# Altium footprint library Resistor Footprints.PcbLib: 5 footprints
Each footprint in its own frame and in the unit in brackets; x right, y up, seen from the top. Pads: shape width x height; smd on the part's side, far side on the other; paste and mask are expansions set on the pad; w line width, h text height; cw(c..) or ccw(c..) is an arc to the next point about the centre after c.
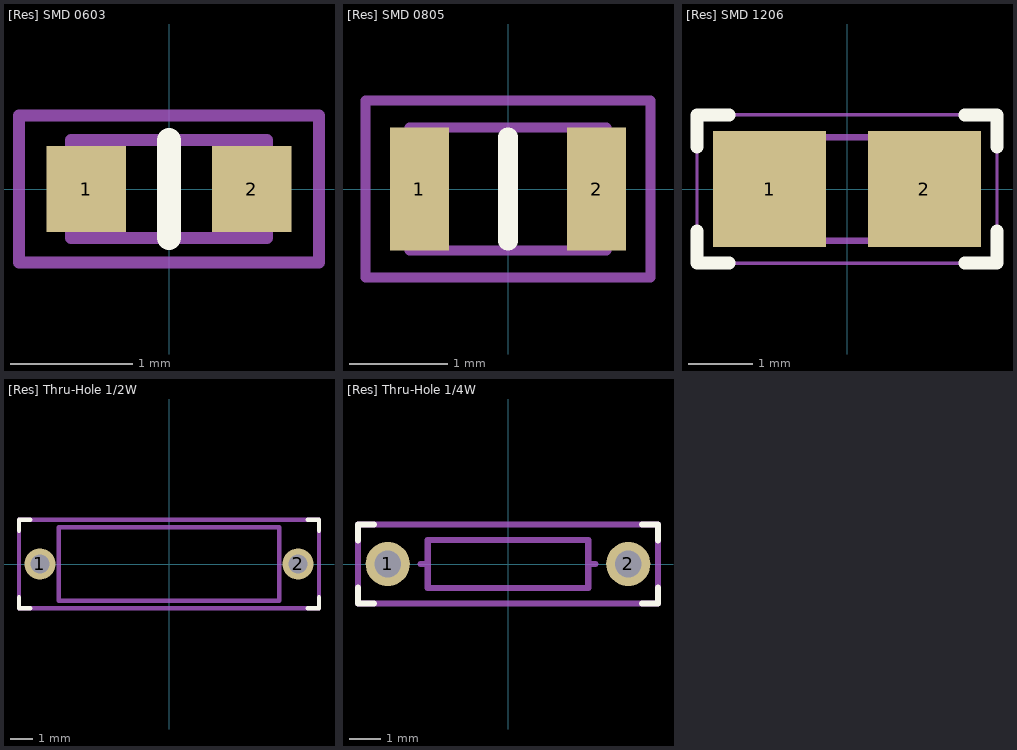
[diagram p0: the footprints below, top view; thin cyan lines are the x and y axes]

## [Res] SMD 0603 [mm]
pads (2):
  rect 0.65x0.7 smd: 1(-0.675,0) 2(0.675,0)
Top Overlay:
  lines w0.2: 0,-0.4 0,0.4
Physical Outline:
  lines w0.1: -0.8,-0.4 0.8,-0.4 0.8,0.4 -0.8,0.4 -0.8,-0.4
Part Border:
  lines w0.1: -1.225,-0.6 1.225,-0.6 1.225,0.6 -1.225,0.6 -1.225,-0.6
3D body "GRM188C80J226ME01D.stp": height 0.8, standoff 0, extent -0.8,-0.45 0.8,0.45

## [Res] SMD 0805 [mm]
pads (2):
  rect 0.6x1.25 smd: 1(-0.9,0) 2(0.9,0)
Top Overlay:
  lines w0.2: 0,-0.525 0,0.525
Physical Outline:
  lines w0.1: -1,-0.625 -1,0.625 1,0.625 1,-0.625 -1,-0.625
Part Border:
  lines w0.1: -1.45,-0.9 1.45,-0.9 1.45,0.9 -1.45,0.9 -1.45,-0.9
3D body "SMD Resistor [0805].STEP": height 0.5, standoff 0, extent -1,-0.625 1,0.625

## [Res] SMD 1206 [mm]
pads (2):
  rect 1.75x1.8 smd: 1(-1.2,0) 2(1.2,0)
Top Overlay:
  lines w0.2: -2.325,-0.65 -2.325,-1.15 -1.825,-1.15 ; -2.325,0.65 -2.325,1.15 -1.825,1.15 ; 1.825,-1.15 2.325,-1.15 2.325,-0.65 ; 1.825,1.15 2.325,1.15 2.325,0.65
Physical Outline:
  lines w0.1: -1.6,-0.8 -1.6,0.8 1.6,0.8 1.6,-0.8 -1.6,-0.8
Part Border:
  lines w0.05: -2.325,-1.15 -2.325,1.15 2.325,1.15 2.325,-1.15 -2.325,-1.15
3D body "HRG3216P-1000-D-T1.stp": height 0.55, standoff 0, extent -1.6,-0.8 1.6,0.8

## [Res] Thru-Hole 1/2W [mm]
pads (2):
  round 1.4 hole 0.85: 1(-5.81,0) 2(5.81,0)
Top Overlay:
  lines w0.2: -6.75,-1.5 -6.75,-2 -6.25,-2 ; -6.75,1.5 -6.75,2 -6.25,2 ; 6.25,-2 6.75,-2 6.75,-1.5 ; 6.25,2 6.75,2 6.75,1.5
Physical Outline:
  lines w0.2: -4.97,-1.65 4.97,-1.65 4.97,1.65 -4.97,1.65 -4.97,-1.65
Part Border:
  lines w0.2: -6.75,-2 6.75,-2 6.75,2 -6.75,2 -6.75,-2
3D body "1-2W Res Thru-Hole.step": height 1.65, standoff -3, extent -6.11,-1.638 6.11,1.638

## [Res] Thru-Hole 1/4W [mm]
pads (2):
  round 1.4 hole 0.85: 1(-3.81,0) 2(3.81,0)
Top Overlay:
  lines w0.2: -4.75,-0.75 -4.75,-1.25 -4.25,-1.25 ; -4.75,0.75 -4.75,1.25 -4.25,1.25 ; 4.25,-1.25 4.75,-1.25 4.75,-0.75 ; 4.25,1.25 4.75,1.25 4.75,0.75
Physical Outline:
  lines w0.2: -2.769,0 -2.54,0 ; 2.769,0 2.54,0 ; 2.54,0 2.54,-0.762 -2.54,-0.762 -2.54,0.762 2.54,0.762 2.54,0
Part Border:
  lines w0.2: -4.75,-1.25 -4.75,1.25 4.75,1.25 4.75,-1.25 -4.75,-1.25
3D body "Axial Resistor.step": height 2.7, standoff -1.5, extent -4.11,-1.194 4.11,1.194